# Altium schematic symbol library ERA3ARB104P.SchLib: 1 symbol
Pins are listed as number, name and electrical type; pins without a type are passive.

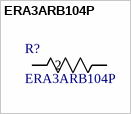
[diagram p0: symbol ERA3ARB104P]

## ERA3ARB104P
designator R?
No Description Available; Manufacturer_Name: Panasonic; Copyright: Copyright (C) 2025 Ultra Librarian. All rights reserved.; Manufacturer_Part_Number: ERA3ARB104P
footprint RES_ERA3A_0603_PAN
pins: 1, 2